# EAGLE library part A20503RSCQE (library ruark2)
Rotary Switch 5 Position DP5T 2.5A (AC), 350mA (DC) 125 VAC Panel Mount, Through Hole
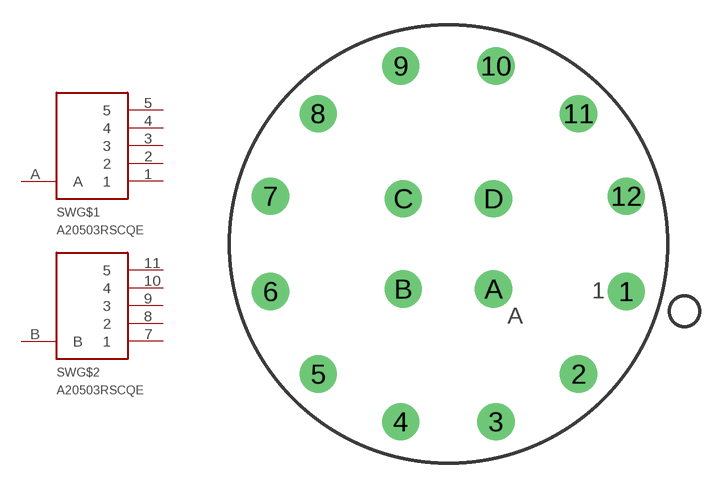
[diagram p181: symbol with the pads of A20503RSCQE; footprint A20503RSCQE]

Designator prefix SW; gates G$1=2X5SW_A G$2=2X5SW_B

## A20503RSCQE (PARTNO: CKN11321-ND)  [A20503RSCQE]
1  G$1:1
2  G$1:2
3  G$1:3
4  G$1:4
5  G$1:5
7  G$2:1
8  G$2:2
9  G$2:3
10  G$2:4
11  G$2:5
A  G$1:A
B  G$2:B

## Footprint A20503RSCQE (pad centres in mm)
drill 1.5: 1 10.722,-2.873; 2 7.849,-7.849; 3 2.873,-10.722; 4 -2.873,-10.722; 5 -7.849,-7.849; 6 -10.722,-2.873; 7 -10.722,2.873; 8 -7.849,7.849; 9 -2.873,10.722; 10 2.873,10.722; 11 7.849,7.849; 12 10.722,2.873; A 2.722,-2.722; B -2.722,-2.722; C -2.722,2.722; D 2.722,2.722